# Altium footprint library NEXPERIA_SOT403-1.PcbLib: 1 footprints
Each footprint in its own frame and in the unit in brackets; x right, y up, seen from the top. Pads: shape width x height; smd on the part's side, far side on the other; paste and mask are expansions set on the pad; w line width, h text height; cw(c..) or ccw(c..) is an arc to the next point about the centre after c.
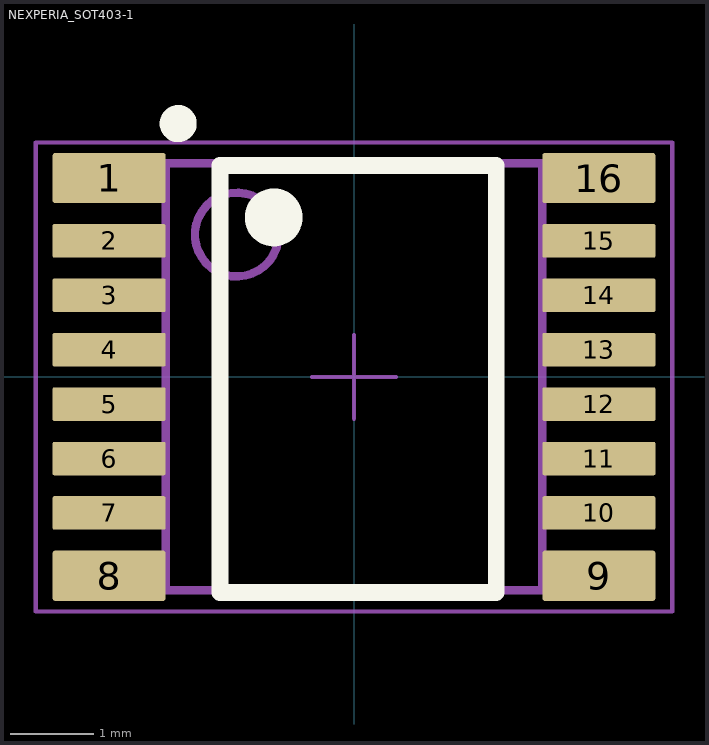
[diagram p0: the footprint, top view; thin cyan lines are the x and y axes]

## NEXPERIA_SOT403-1 [mm] "NEXPERIA_SOT403-1"
height 1.1
pads (16):
  rrect10% 1.35x0.6 smd mask+0.05: 1(-2.925,2.375) 8(-2.925,-2.375) 9(2.925,-2.375) 16(2.925,2.375)
  rrect10% 1.35x0.4 smd mask+0.05: 2(-2.925,1.625) 3(-2.925,0.975) 4(-2.925,0.325) 5(-2.925,-0.325) 6(-2.925,-0.975) 7(-2.925,-1.625) 10(2.925,-1.625) 11(2.925,-0.975) 12(2.925,-0.325) 13(2.925,0.325) 14(2.925,0.975) 15(2.925,1.625)
Top Overlay:
  circle w0.5: c-0.958,1.905 r0.095
  circle w0.254: c-2.1,3.025 r0.095
  lines w0.2: -1.6,-2.575 1.7,-2.575 1.7,2.525 -1.6,2.525 -1.6,-2.575
Top 3D Body:
  circle w0.1: c-1.4,1.7 r0.5
  lines w0.1: -2.25,-2.55 -2.25,2.55 2.25,2.55 2.25,-2.55 -2.25,-2.55
Top Courtyard (Mech15):
  lines w0.05: -0.5,0 0.5,0 ; 0,-0.5 0,0.5 ; -3.8,-2.8 3.8,-2.8 3.8,2.8 -3.8,2.8 -3.8,-2.8
3D body "TSSOP,16Pin,W4.4.step": height 1.1, standoff 0, extent -3.2,-2.5 3.2,2.5